# Altium schematic symbol library ЕРКФ.426477.005.SCHLIB: 70 symbols
Pins are listed as number, name and electrical type; pins without a type are passive.

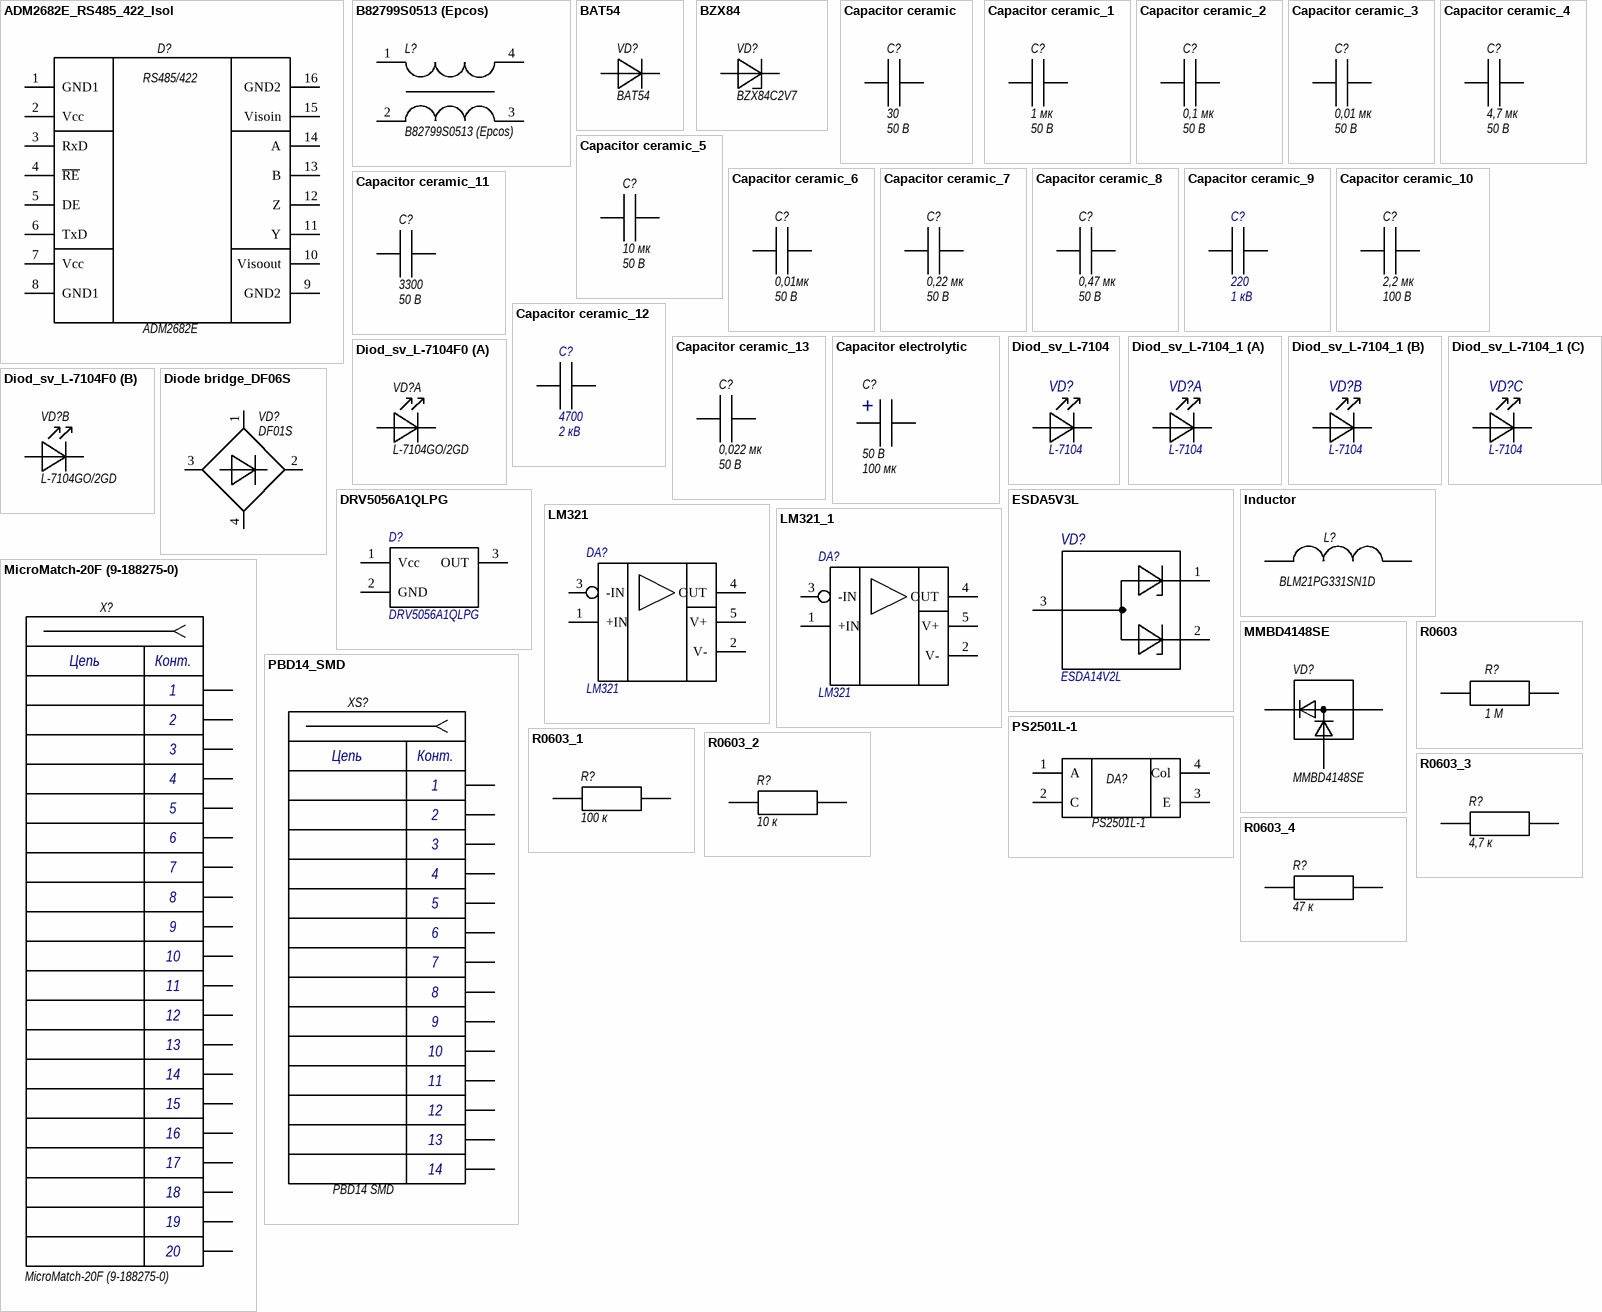
[diagram p0: symbols ADM2682E_RS485_422_Isol to R0603_4]

## ADM2682E_RS485_422_Isol
designator D?  Type: ADM2682E  (hidden comment: ADM2682E_RS485_422_Isol)
footprint SOIC_16IC (D?)
pins: 1 GND1, 2 Vcc, 3 RxD, 4 ~{RE}, 5 DE, 6 TxD, 7 Vcc, 8 GND1, 9 GND2, 10 Visoout, 11 Y, 12 Z, 13 B, 14 A, 15 Visoin, 16 GND2
text: RS485/422

## B82799S0513 (Epcos)
designator L?
Value: B82799S0513 (Epcos)
footprint B82799S0513 (Epcos) (Inductor, 4-Leads)
pins: 1, 2, 3, 4

## BAT54
designator VD?
Type: BAT54
footprint SOT-23
pins: 1 A, 3 K

## BZX84
designator VD?  Type: BZX84C2V7  (hidden comment: BZX84)
footprint SOT-23
pins: 1 A, 3 K

## Capacitor ceramic
designator C?  value 30  Voltage: 50 В  (hidden comment: Capacitor ceramic)
Capacitance: 30 x 50 В; Dielectric: NP0; Tolerance: 5%
footprint C1206
footprint C0805
footprint C1812
footprint C1210
footprint C2220
footprint C0603 (Chip Capacitor, 2-Leads, Body 1,60x0,80mm, IPC Medium Density)
simulation model CAP (Capacitor)
signal-integrity model Kemet
footprint C1808
pins: 1, 2

## Capacitor ceramic_1
designator C?, comment value 1 мк  Voltage: 50 В  (hidden comment: Capacitor ceramic)
Capacitance: 1 мк x 50 В; Dielectric: X7R; Tolerance: 10%
footprint C1206
footprint C0805
footprint C1812
footprint C1210
footprint C2220
footprint C0603 (Chip Capacitor, 2-Leads, Body 1,60x0,80mm, IPC Medium Density)
simulation model CAP (Capacitor)
signal-integrity model Kemet
footprint C1808
pins: 1, 2

## Capacitor ceramic_2
designator C?, comment value 0,1 мк  Voltage: 50 В  (hidden comment: Capacitor ceramic)
Capacitance: 0,1 мк x 50 В; Dielectric: X7R; Tolerance: 10%
footprint C1206
footprint C0805
footprint C1812
footprint C1210
footprint C2220
footprint C0603 (Chip Capacitor, 2-Leads, Body 1,60x0,80mm, IPC Medium Density)
simulation model CAP (Capacitor)
signal-integrity model Kemet
footprint C1808
pins: 1, 2

## Capacitor ceramic_3
designator C?, comment value 0,01 мк  Voltage: 50 В  (hidden comment: Capacitor ceramic)
Capacitance: 0,01 мк x 50 В; Dielectric: X7R; Tolerance: 10%
footprint C1206
footprint C0805
footprint C1812
footprint C1210
footprint C2220
footprint C0603 (Chip Capacitor, 2-Leads, Body 1,60x0,80mm, IPC Medium Density)
simulation model CAP (Capacitor)
signal-integrity model Kemet
footprint C1808
pins: 1, 2

## Capacitor ceramic_4
designator C?, comment value 4,7 мк  Voltage: 50 В  (hidden comment: Capacitor ceramic)
Capacitance: 4,7 мк x 50 В; Dielectric: X7R; Tolerance: 10%
footprint C1206
footprint C0805
footprint C1812
footprint C1210
footprint C2220
footprint C0603 (Chip Capacitor, 2-Leads, Body 1,60x0,80mm, IPC Medium Density)
simulation model CAP (Capacitor)
signal-integrity model Kemet
footprint C1808
pins: 1, 2

## Capacitor ceramic_5
designator C?, comment value 10 мк  Voltage: 50 В  (hidden comment: Capacitor ceramic)
Capacitance: 10 мк x 50 В; Dielectric: X7R; Tolerance: 10%
footprint C1206
footprint C0805
footprint C1812
footprint C1210
footprint C2220
footprint C0603 (Chip Capacitor, 2-Leads, Body 1,60x0,80mm, IPC Medium Density)
simulation model CAP (Capacitor)
signal-integrity model Kemet
footprint C1808
pins: 1, 2

## Capacitor ceramic_6
designator C?, comment value 0,01мк  Voltage: 50 В  (hidden comment: Capacitor ceramic)
Capacitance: 0,01мк x 50 В; Dielectric: X7R; Tolerance: 10%
footprint C1206
footprint C0805
footprint C1812
footprint C1210
footprint C2220
footprint C0603 (Chip Capacitor, 2-Leads, Body 1,60x0,80mm, IPC Medium Density)
simulation model CAP (Capacitor)
signal-integrity model Kemet
footprint C1808
pins: 1, 2

## Capacitor ceramic_7
designator C?, comment value 0,22 мк  Voltage: 50 В  (hidden comment: Capacitor ceramic)
Capacitance: 0,22 мк x 50 В; Dielectric: X7R; Tolerance: 10%
footprint C1206
footprint C0805
footprint C1812
footprint C1210
footprint C2220
footprint C0603 (Chip Capacitor, 2-Leads, Body 1,60x0,80mm, IPC Medium Density)
simulation model CAP (Capacitor)
signal-integrity model Kemet
footprint C1808
pins: 1, 2

## Capacitor ceramic_8
designator C?, comment value 0,47 мк  Voltage: 50 В  (hidden comment: Capacitor ceramic)
Capacitance: 0,47 мк x 50 В; Dielectric: X7R; Tolerance: 10%
footprint C1206
footprint C0805
footprint C1812
footprint C1210
footprint C2220
footprint C0603 (Chip Capacitor, 2-Leads, Body 1,60x0,80mm, IPC Medium Density)
simulation model CAP (Capacitor)
signal-integrity model Kemet
footprint C1808
pins: 1, 2

## Capacitor ceramic_9
designator C?, comment value 220  Voltage: 1 кВ  (hidden comment: Capacitor ceramic)
Capacitance: 220 x 1 кВ; Tolerance: 10%; Dielectric: *
footprint C1206
footprint C0805
footprint C1812
footprint C1210
footprint C2220
footprint C0603 (Chip Capacitor, 2-Leads, Body 1,60x0,80mm, IPC Medium Density)
simulation model CAP (Capacitor)
signal-integrity model Kemet
footprint C1808
footprint DEBB33A221K (220 пФ 10% 1 кВ)
footprint DEBF33D472ZA2B (4700 пФ 10% 2 кВ)
pins: 1, 2

## Capacitor ceramic_10
designator C?, comment value 2,2 мк  Voltage: 100 В  (hidden comment: Capacitor ceramic)
Capacitance: 2,2 мк x 100 В; Dielectric: X7R; Tolerance: 10%
footprint C1206
footprint C0805
footprint C1812
footprint C1210
footprint C2220
footprint C0603 (Chip Capacitor, 2-Leads, Body 1,60x0,80mm, IPC Medium Density)
simulation model CAP (Capacitor)
signal-integrity model Kemet
footprint C1808
pins: 1, 2

## Capacitor ceramic_11
designator C?, comment value 3300  Voltage: 50 В  (hidden comment: Capacitor ceramic)
Capacitance: 3300 x 50 В; Dielectric: X7R; Tolerance: 10%
footprint C1206
footprint C0805
footprint C1812
footprint C1210
footprint C2220
footprint C0603 (Chip Capacitor, 2-Leads, Body 1,60x0,80mm, IPC Medium Density)
simulation model CAP (Capacitor)
signal-integrity model Kemet
footprint C1808
pins: 1, 2

## Capacitor ceramic_12
designator C?, comment value 4700  Voltage: 2 кВ  (hidden comment: Capacitor ceramic)
Capacitance: 4700 x 2 кВ; Tolerance: 10%; Dielectric: *
footprint C1206
footprint C0805
footprint C1812
footprint C1210
footprint C2220
footprint C0603 (Chip Capacitor, 2-Leads, Body 1,60x0,80mm, IPC Medium Density)
simulation model CAP (Capacitor)
signal-integrity model Kemet
footprint C1808
footprint DEBB33A221K (220 пФ 10% 1 кВ)
footprint DEBF33D472ZA2B (4700 пФ 10% 2 кВ)
pins: 1, 2

## Capacitor ceramic_13
designator C?, comment value 0,022 мк  Voltage: 50 В  (hidden comment: Capacitor ceramic)
Capacitance: 0,022 мк x 50 В; Dielectric: X7R; Tolerance: 5%
footprint C1206
footprint C0805
footprint C1812
footprint C1210
footprint C2220
footprint C0603 (Chip Capacitor, 2-Leads, Body 1,60x0,80mm, IPC Medium Density)
simulation model CAP (Capacitor)
signal-integrity model Kemet
footprint C1808
pins: 1, 2

## Capacitor electrolytic
designator C?  value 100 мк  Voltage: 50 В  (hidden comment: Capacitor electrolytic)
Tolerance: ±20%; Polarization: Polar; Capacitance: 100 мк x 50 В; Famile: Capacitor; Category: Capacitors; Operating Temperature: -40°C ~ 105°C; Package / Case: Radial, Can - SMD; ComponentLink1Description: B41121A6107M000; ComponentLink1URL: 5\res\Справочники\Конденсаторы\KEM_A4003_EXV.pdf; Dielectric: *
footprint 9B_4х5,4
footprint 9D_5х5,4
footprint 9G_6,3х5,4
footprint 9H_6,3х7,7
footprint 9M_8х10.2
footprint 9P_10х10.2
pins: 1 A, 2 K
text: +

## Diod_sv_L-7104
designator VD?  Type: L-7104  (hidden comment: Diod_sv_L-7104)
footprint L-7104SA/1
pins: 1 A1, 2 K1

## Diod_sv_L-7104_1
designator VD?  Type: L-7104  (hidden comment: Diod_sv_L-7104_1)
footprint L-7104SA/3
part A pins: 1 A1, 2 K1
part B pins: 3 A2, 4 K2
part C pins: 5 A2, 6 K2

## Diod_sv_L-7104F0
designator VD?  Type: L-7104GO/2GD  (hidden comment: Diod_sv_L-7104F0)
footprint L-7104
part A pins: 1 A1, 2 K1
part B pins: 3 A2, 4 K2

## Diode bridge_DF06S
designator VD?  Type: DF01S  (hidden comment: Diode bridge_DF06S)
footprint DFS
pins: 1, 2, 3, 4

## DRV5056A1QLPG
designator D?
Type: DRV5056A1QLPG
footprint TO-92
pins: 1 Vcc, 2 GND, 3 OUT

## ESDA5V3L
designator VD?, comment ESDA14V2L
ESDA5V3L; Type: ESDA14V2L
footprint SOT-23
pins: 1, 2, 3

## Inductor
designator L?, comment BLM21PG331SN1D
Type: BLM21PG331SN1D
footprint L0603 (Chip Inductor, 2-Leads, Body 1,60x0,80mm, IPC Medium Density)
footprint L0805 (BF-SB201209 2.0x1.25x0.90)
pins: 1, 2

## LM321
designator DA?
footprint SOT23-5 (SOT23, 5-Leads, Body 2,90x2,80mm, Pitch 0,95mm, IPC Medium Density)
pins: 1 +IN, 2 V-, 3 -IN, 4 OUT, 5 V+

## LM321_1
designator DA?, comment LM321
Type: LM321
footprint SOT23-5 (SOT23, 5-Leads, Body 2,90x2,80mm, Pitch 0,95mm, IPC Medium Density)
pins: 1 +IN, 2 V-, 3 -IN, 4 OUT, 5 V+

## MicroMatch-20F (9-188275-0)
designator X?
Type: MicroMatch-20F (9-188275-0)
footprint 9-188275-0
pins: 1, 2, 3, 4, 5, 6, 7, 8, 9, 10, 11, 12, 13, 14, 15, 16, 17, 18, 19, 20
text: Цепь; Конт.

## MMBD4148SE
designator VD?
Type: MMBD4148SE
footprint SOT-23
pins: 1, 2, 3

## PBD14_SMD
designator XS?, comment PBD14 SMD
Type: PBD14 SMD
footprint PBD14SMD
footprint PLD14SMD-MIRROR
pins: 1, 2, 3, 4, 5, 6, 7, 8, 9, 10, 11, 12, 13, 14
text: Цепь; Конт.

## PS2501L-1
designator DA?
Type: PS2501L-1
footprint DIP-SMD-4
pins: 1 A, 2 C, 3 E, 4 Col

## R0603
designator R?, comment value 1 M  (hidden comment: 1 M ±5%)
Precision: ±5%
footprint R0603 (Chip Resistor, 2-Leads, Body 1,60x0,80mm, IPC Medium Density)
pins: 1, 2

## R0603_1
designator R?, comment value 100 к  (hidden comment: 100 к ±5%)
Precision: ±5%
footprint R0603 (Chip Resistor, 2-Leads, Body 1,60x0,80mm, IPC Medium Density)
pins: 1, 2

## R0603_2
designator R?, comment value 10 к  (hidden comment: 10 к ±5%)
Precision: ±5%
footprint R0603 (Chip Resistor, 2-Leads, Body 1,60x0,80mm, IPC Medium Density)
pins: 1, 2

## R0603_3
designator R?, comment value 4,7 к  (hidden comment: 4,7 к ±5%)
Precision: ±5%
footprint R0603 (Chip Resistor, 2-Leads, Body 1,60x0,80mm, IPC Medium Density)
pins: 1, 2

## R0603_4
designator R?, comment value 47 к  (hidden comment: 47 к ±5%)
Precision: ±5%
footprint R0603 (Chip Resistor, 2-Leads, Body 1,60x0,80mm, IPC Medium Density)
pins: 1, 2

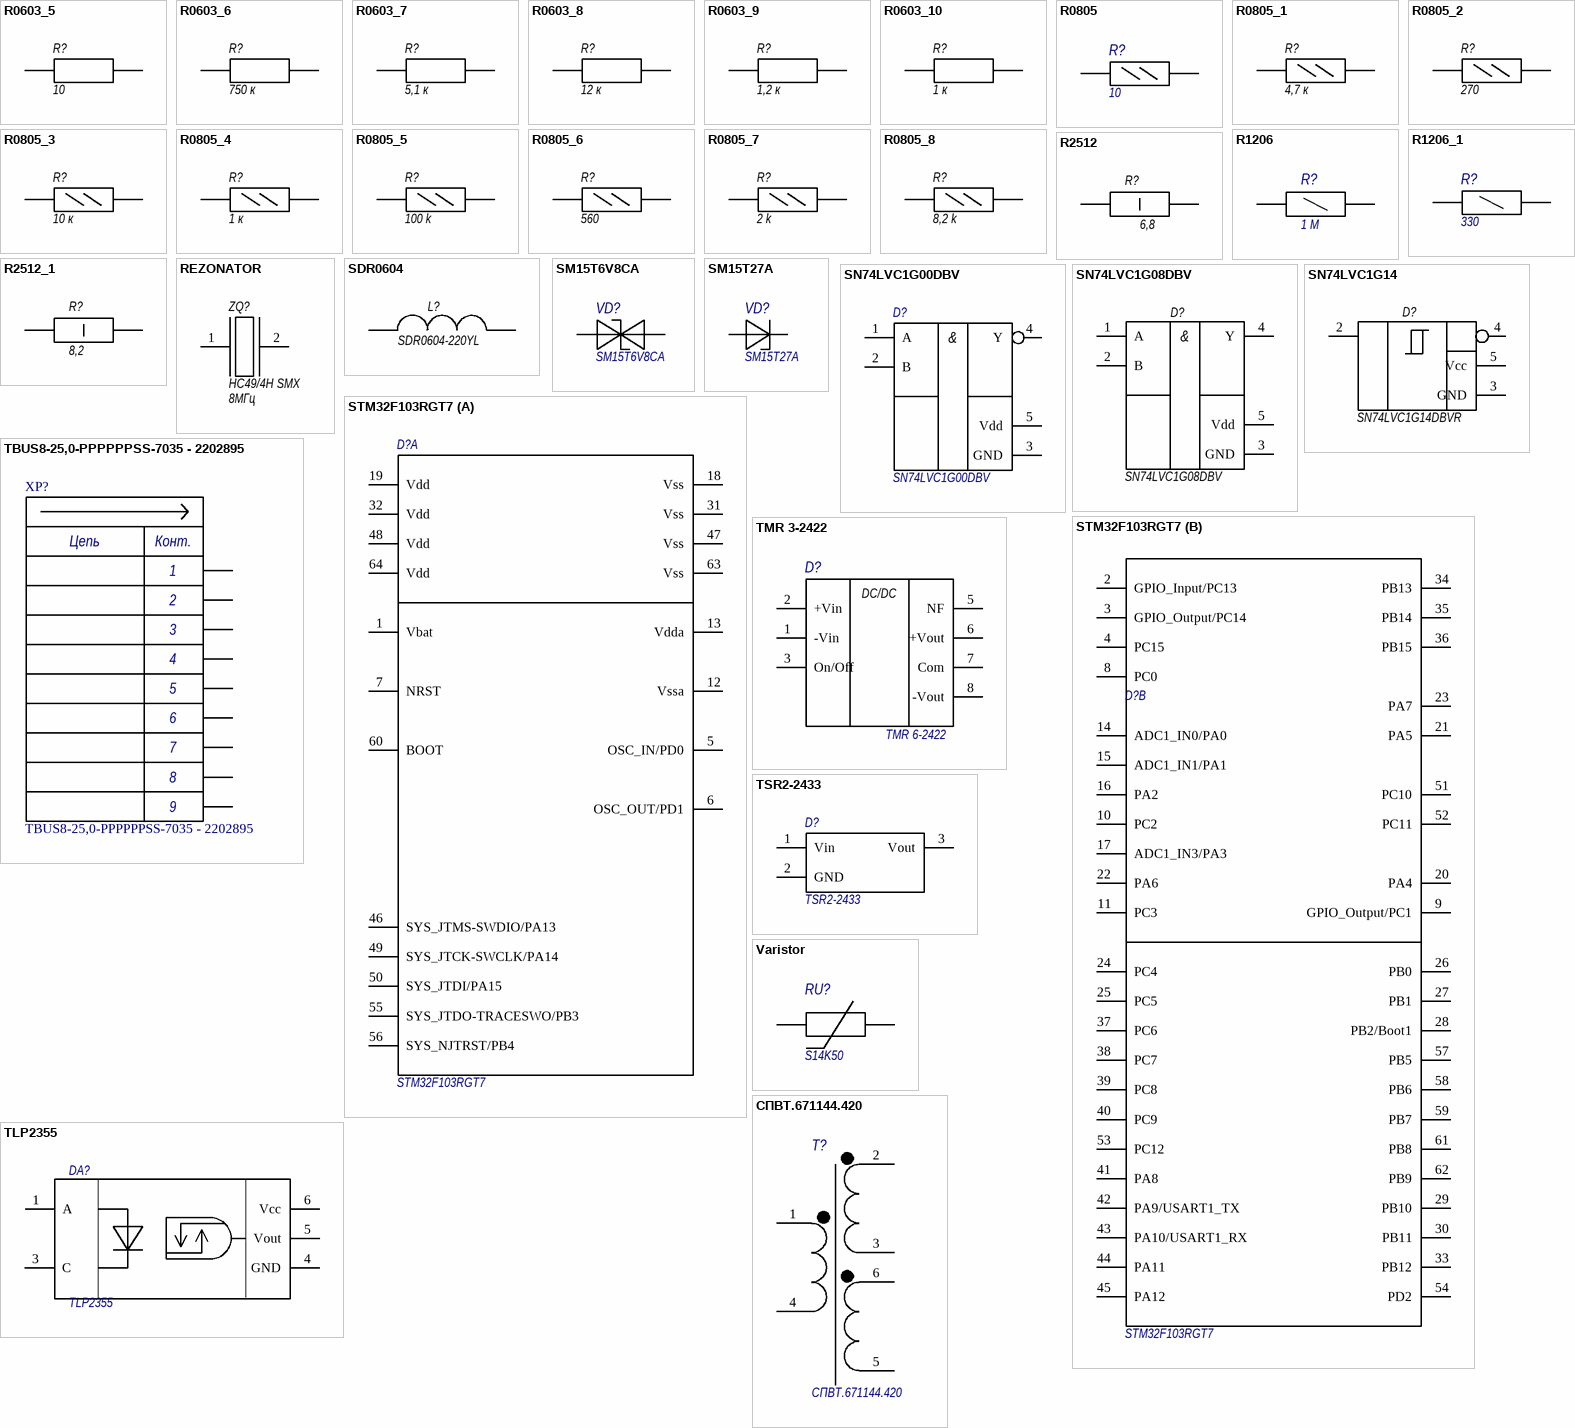
[diagram p1: symbols R0603_5 to СПВТ.671144.420]

## R0603_5
designator R?, comment value 10  (hidden comment: 10 ±5%)
Precision: ±5%
footprint R0603 (Chip Resistor, 2-Leads, Body 1,60x0,80mm, IPC Medium Density)
pins: 1, 2

## R0603_6
designator R?, comment value 750 к  (hidden comment: 750 к ±5%)
Precision: ±5%
footprint R0603 (Chip Resistor, 2-Leads, Body 1,60x0,80mm, IPC Medium Density)
pins: 1, 2

## R0603_7
designator R?, comment value 5,1 к  (hidden comment: 5,1 к ±1%)
Precision: ±1%
footprint R0603 (Chip Resistor, 2-Leads, Body 1,60x0,80mm, IPC Medium Density)
pins: 1, 2

## R0603_8
designator R?, comment value 12 к  (hidden comment: 12 к ±1%)
Precision: ±1%
footprint R0603 (Chip Resistor, 2-Leads, Body 1,60x0,80mm, IPC Medium Density)
pins: 1, 2

## R0603_9
designator R?, comment value 1,2 к  (hidden comment: 1,2 к ±1%)
Precision: ±1%
footprint R0603 (Chip Resistor, 2-Leads, Body 1,60x0,80mm, IPC Medium Density)
pins: 1, 2

## R0603_10
designator R?, comment value 1 к  (hidden comment: 1 к ±5%)
Precision: ±5%
footprint R0603 (Chip Resistor, 2-Leads, Body 1,60x0,80mm, IPC Medium Density)
pins: 1, 2

## R0805
designator R?, comment value 10  (hidden comment: 10 ±5%)
Precision: ±5%
footprint R0805
pins: 1, 2

## R0805_1
designator R?, comment value 4,7 к  (hidden comment: 4,7 к ±5%)
Precision: ±5%
footprint R0805
pins: 1, 2

## R0805_2
designator R?, comment value 270  (hidden comment: 270 ±5%)
Precision: ±5%
footprint R0805
pins: 1, 2

## R0805_3
designator R?, comment value 10 к  (hidden comment: 10 к ±5%)
Precision: ±5%
footprint R0805
pins: 1, 2

## R0805_4
designator R?, comment value 1 к  (hidden comment: 1 к ±5%)
Precision: ±5%
footprint R0805
pins: 1, 2

## R0805_5
designator R?, comment value 100 k  (hidden comment: 100 k ±5%)
Precision: ±5%
footprint R0805
pins: 1, 2

## R0805_6
designator R?, comment value 560  (hidden comment: 560 ±5%)
Precision: ±5%
footprint R0805
pins: 1, 2

## R0805_7
designator R?, comment value 2 k  (hidden comment: 2 k ±5%)
Precision: ±5%
footprint R0805
pins: 1, 2

## R0805_8
designator R?, comment value 8,2 k  (hidden comment: 8,2 k ±1%)
Precision: ±1%
footprint R0805
pins: 1, 2

## R1206
designator R?, comment value 1 М  (hidden comment: 1 М ±1%)
Precision: ±1%
footprint R1206
pins: 1, 2

## R1206_1
designator R?, comment value 330  (hidden comment: 330 ±5%)
Precision: ±5%
footprint R1206
pins: 1, 2

## R2512
designator R?, comment value 6,8  (hidden comment: 6,8 ±5%)
Precision: ±5%
footprint R2512
pins: 1, 2

## R2512_1
designator R?, comment value 8,2  (hidden comment: 8,2 ±5%)
Precision: ±5%
footprint R2512
pins: 1, 2

## REZONATOR
designator ZQ?  value 8МГц  Type: HC49/4H SMX  (hidden comment: REZONATOR)
Crystal
footprint HC49/4H SMX CRYSTALS (SMX crystals)
footprint CM7V-T1A (Watch Crystal)
pins: 1, 2

## SDR0604
designator L?  Type: SDR0604-220YL  (hidden comment: SDR0604)
footprint SDR0604
pins: 1, 2

## SM15T6V8CA
designator VD?
Type: SM15T6V8CA
footprint SMC/DO-214AB
pins: A, K

## SM15T27A
designator VD?
Type: SM15T27A
footprint SMC/DO-214AB
pins: A, K

## SN74LVC1G00DBV
designator D?
Type: SN74LVC1G00DBV
footprint SOT23-5 (SOT23, 5-Leads, Body 2,90x2,80mm, Pitch 0,95mm, IPC Medium Density)
pins: 1 A, 2 B, 3 GND, 4 Y, 5 Vdd
text: &

## SN74LVC1G08DBV
designator D?
Single 2-Input Positive-AND Gate; Type: SN74LVC1G08DBV
footprint SOT23-5 (SOT23, 5-Leads, Body 2,90x2,80mm, Pitch 0,95mm, IPC Medium Density)
pins: 1 A, 2 B, 3 GND, 4 Y, 5 Vdd
text: &

## SN74LVC1G14
designator D?, comment Type: SN74LVC1G14DBVR  (hidden comment: 74LVC1G14)
footprint SOT23-5 (SOT23, 5-Leads, Body 2,90x2,80mm, Pitch 0,95mm, IPC Medium Density)
pins: 2 IN, 3 GND, 4 OUT, 5 Vcc

## STM32F103RGT7
designator D?
Type: STM32F103RGT7
footprint LQFP-64 (LQFP, 64-Leads, Body 10,00x10,00mm, Pitch 0,50mm)
part A pins: 1 Vbat, 5 OSC_IN/PD0, 6 OSC_OUT/PD1, 7 NRST, 12 Vssa, 13 Vdda, 18 Vss, 19 Vdd, 31 Vss, 32 Vdd, 46 SYS_JTMS-SWDIO/PA13, 47 Vss, 48 Vdd, 49 SYS_JTCK-SWCLK/PA14, 50 SYS_JTDI/PA15, 55 SYS_JTDO-TRACESWO/PB3, 56 SYS_NJTRST/PB4, 60 BOOT, 63 Vss, 64 Vdd
part B pins: 2 GPIO_Input/PC13, 3 GPIO_Output/PC14, 4 PC15, 8 PC0, 9 GPIO_Output/PC1, 10 PC2, 11 PC3, 14 ADC1_IN0/PA0, 15 ADC1_IN1/PA1, 16 PA2, 17 ADC1_IN3/PA3, 20 PA4, 21 PA5, 22 PA6, 23 PA7, 24 PC4, 25 PC5, 26 PB0, 27 PB1, 28 PB2/Boot1, 29 PB10, 30 PB11, 33 PB12, 34 PB13, 35 PB14, 36 PB15, 37 PC6, 38 PC7, 39 PC8, 40 PC9, 41 PA8, 42 PA9/USART1_TX, 43 PA10/USART1_RX, 44 PA11, 45 PA12, 51 PC10, 52 PC11, 53 PC12, 54 PD2, 57 PB5, 58 PB6, 59 PB7, 61 PB8, 62 PB9

## TBUS8-25,0-PPPPPPSS-7035 - 2202895
designator XP?
Type: TBUS8-25,0-PPPPPPSS-7035 - 2202895
footprint TBUS8-25,0-PPPPPPSS-7035 - 2202895
pins: 1 1c, 2 2c, 3 3c, 4 4c, 5 5c, 6 6c, 7 7e, 8 8e, 9
text: Цепь; Конт.

## TLP2355
designator DA?
footprint TLP2355
pins: 1 A, 3 C, 4 GND, 5 Vout, 5 A2, 6 Vcc, 6 K2

## TMR 3-2422
designator D?  Type: TMR 6-2422  (hidden comment: TMR 3-2422)
footprint TMR 3-2422
pins: 1 -Vin (power), 2 +Vin (power), 3 On/Off (power), 5 NF (power), 6 +Vout (power), 7 Com (power), 8 -Vout (power)
text: DC/DC

## TSR2-2433
designator D?
Type: TSR2-2433
footprint SIP-3
pins: 1 Vin, 2 GND, 3 Vout

## Varistor
designator RU?  Type: S14K50  (hidden comment: Varistor)
Value: *
footprint S14K460
footprint S20K460
footprint S10K250
footprint S14K50 (Корпус на плату)
pins: 1, 2

## СПВТ.671144.420
designator T?
Type: СПВТ.671144.420
footprint СПВТ.671144.420
pins: 1, 2, 3, 4, 5, 6